# Altium schematic symbol library SchLib_Main.SchLib: 425 symbols (part 1 of 11)
Pins are listed as number, name and electrical type; pins without a type are passive.

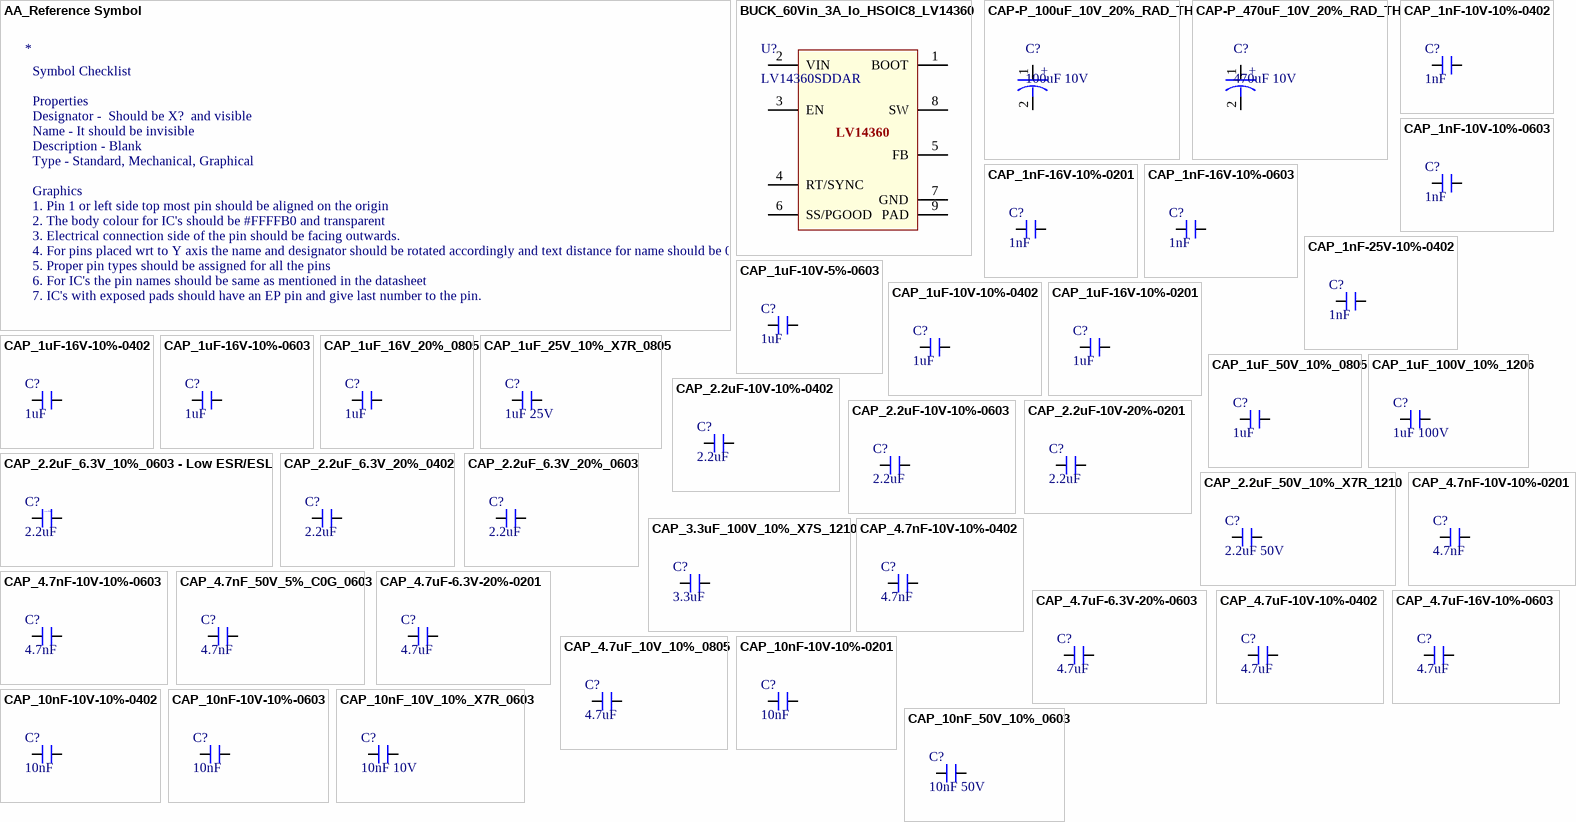
[diagram p0: symbols AA_Reference Symbol to CAP_10nF_50V_10%_0603]

## AA_Reference Symbol
designator *, comment Reference Symbol  (value not drawn)  (graphical)
Reference Checklist for Creating New Symbols
text: Symbol Checklist; Properties; Designator -  Should be X?  and visible; Name - It should be invisible; Description - Blank; Type - Standard, Mechanical, Graphical; Graphics; 1. Pin 1 or left side top most pin should be aligned on the origin; 2. The body colour for IC's should be #FFFFB0 and transparent; 3. Electrical connection side of the pin should be facing outwards.; 4. For pins placed wrt to Y axis the name and designator should be rotated accordingly and text distance for name should be 0mm; 5. Proper pin types should be assigned for all the pins; 6. For IC's the pin names should be same as mentioned in the datasheet; 7. IC's with exposed pads should have an EP pin and give last number to the pin.

## BUCK_60Vin_3A_Io_HSOIC8_LV14360
designator U?, comment LV14360SDDAR
4.3-V to 60-V, 3-A, step down converter with 300-µA standby IQ and +/-0.53% Vref accuracy 8-SO PowerPAD -40 to 150; Manufacturer: Texas Instruments; Supplier: Mouser; Supplier Part Number: 595-LV14360SDDAR; Manufacturer Part Number: LV14360SDDAR; RoHS: Yes; Category: Voltage Regulators - Switching; Stock: 4336; Pricing: 1=2.94, 10=2.64, 50=2.64, 100=2.16, 1000=1.55, 10000=1.42 (USD); Supplier 1: Mouser; Supplier Part Number 1: 595-LV14360SDDAR; Supplier 2: Digikey; Supplier Part Number 2: 296-LV14360SDDARTR-ND
pins: 1 BOOT, 2 VIN, 3 EN, 4 RT/SYNC, 5 FB, 6 SS/PGOOD, 7 GND, 8 SW, 9 PAD
text: LV14360

## CAP-P_100uF_10V_20%_RAD_TH
designator C?, comment 100uF 10V
100 µF 10 V Aluminum Electrolytic Capacitors Radial, Can 2000 Hrs @ 85°C; Manufacturer: Wurth Electronics; Manufacturer Part Number: 860010272005; Dielectric Material: Aluminium; Supplier: Digi-Key; Supplier Part Number: 732-8702-1-ND; RoHS: Yes; Category: Aluminum Electrolytic Capacitors; Stock: 1584; Pricing: 1=0.12, 50=0.1, 100=0.088, 250=0.078, 500=0.068, 1000=0.064 (USD); Pins: 2; Capacitor Type: Aluminium; Reach SVHC Compliant: Yes; RoHS Compliant: Yes; ComponentLink1URL: https://datasheet.ciiva.com:443/pdfs/VipMasterIC/IC/MIDC/MIDC-S-A0000764616/MIDC-S-A0000764141-1.pdf?src-supplier=IHS+Markit; ComponentLink1Description: https://datasheet.ciiva.com:443/pdfs/VipMasterIC/IC/MIDC/MIDC-S-A0000764616/MIDC-S-A0000764141-1.pdf?src-supplier=IHS+Markit; ComponentLink2URL: http://www.farnell.com/datasheets/1879452.pdf?src-supplier=Farnell; ComponentLink2Description: http://www.farnell.com/datasheets/1879452.pdf?src-supplier=Farnell; ComponentLink3URL: http://www.farnell.com/datasheets/1879452.pdf?src-supplier=Element14; ComponentLink3Description: http://www.farnell.com/datasheets/1879452.pdf?src-supplier=Element14; ComponentLink4URL: http://katalog.we-online.de/pbs/datasheet/860010272005.pdf?src-supplier=Digi-Key; ComponentLink4Description: http://katalog.we-online.de/pbs/datasheet/860010272005.pdf?src-supplier=Digi-Key; Supplier 1: Digi-Key; Supplier Part Number 1: 732-8702-1-ND
footprint CAP_TH_2mm_1mm_hole
pins: 1, 2
text: +

## CAP-P_470uF_10V_20%_RAD_TH
designator C?, comment 470uF 10V
Aluminum Electrolytic Capacitor, Aluminum (wet); Manufacturer: Wurth Electronics; Manufacturer Part Number: 860010273011; Dielectric Material: Aluminium; Supplier: Digi-Key; Supplier Part Number: 732-8708-1-ND; RoHS: Yes; Category: Aluminum Electrolytic Capacitors; Stock: 4181; Pricing: 1=0.17, 50=0.144, 100=0.126, 250=0.112, 500=0.098 (USD); Pins: 2; Capacitor Type: Aluminium; Reach SVHC Compliant: Yes; RoHS Compliant: Yes; ComponentLink1URL: https://datasheet.ciiva.com:443/pdfs/VipMasterIC/IC/MIDC/MIDC-S-A0000764616/MIDC-S-A0000765065-1.pdf?src-supplier=IHS+Markit; ComponentLink1Description: https://datasheet.ciiva.com:443/pdfs/VipMasterIC/IC/MIDC/MIDC-S-A0000764616/MIDC-S-A0000765065-1.pdf?src-supplier=IHS+Markit; ComponentLink2URL: http://www.farnell.com/datasheets/1879458.pdf?src-supplier=Farnell; ComponentLink2Description: http://www.farnell.com/datasheets/1879458.pdf?src-supplier=Farnell; ComponentLink3URL: http://www.farnell.com/datasheets/1879458.pdf?src-supplier=Element14; ComponentLink3Description: http://www.farnell.com/datasheets/1879458.pdf?src-supplier=Element14; ComponentLink4URL: http://katalog.we-online.de/pbs/datasheet/860010273011.pdf?src-supplier=Digi-Key; ComponentLink4Description: http://katalog.we-online.de/pbs/datasheet/860010273011.pdf?src-supplier=Digi-Key; ComponentLink5URL: https://katalog.we-online.de/pbs/datasheet/860010273011.pdf?src-supplier=Digi-Key; ComponentLink5Description: https://katalog.we-online.de/pbs/datasheet/860010273011.pdf?src-supplier=Digi-Key; Supplier 1: Digi-Key; Supplier Part Number 1: 732-8708-1-ND
pins: 1, 2
text: +

## CAP_1nF-10V-10%-0402
designator C?, comment 1nF
Multilayer Ceramic Capacitor, 1000 pF, 10 V, ± 10%, X7R, 0402 [1005 Metric]; Manufacturer: KEMET; Manufacturer Part Number: C0402C102K8RACTU; Voltage Rating: 10V; Dissipation Factor: 5%; Case/Package: 0402; Supplier-1: Digikey; Supplier 1: Digi-Key; Manufacturer 1: KEMET; Manufacturer Part Number 1: C0402C102K8RACTU; RoHS: Yes; Category: Ceramic Capacitors; Stock 1: 209937; Pricing 1: 1=0.1, 10=0.019, 50=0.0104, 100=0.0085, 500=0.00604, 1000=0.00475, 2500=0.00432, 5000=0.00397 (USD); Mount: Surface Mount; Case Code (Imperial): 0402; Case Code (Metric): 1005; Dielectric Material: Ceramic; Min Operating Temperature: -55°C; Max Operating Temperature: 125°C; Capacitance: 1nF; Tolerance: 10%; Packaging: Tape and Reel; Package Quantity: 1; Voltage Rating (DC): 10V; Dielectric: X7R; Termination: SMD/SMT; Series: C; Construction: Flat; Length: 1mm; Width: 0.02inch; Height: 0.5mm; Lead Pitch: 0.3mm; Thickness: 0.022inch; Depth: 0.5mm; Reach SVHC Compliant: No; RoHS Compliant: Yes; ComponentLink1URL: http://www.farnell.com/datasheets/2746032.pdf?src-supplier=Farnell; ComponentLink1Description: http://www.farnell.com/datasheets/2746032.pdf?src-supplier=Farnell; ComponentLink2URL: http://components.arrow.com/part/dataview/2084806S6036613N7429?src-supplier=Arrow+Electronics; ComponentLink2Description: http://components.arrow.com/part/dataview/2084806S6036613N7429?src-supplier=Arrow+Electronics; ComponentLink3URL: http://www.mouser.com/ds/2/212/KEM_C1002_X7R_SMD-1102033.pdf?src-supplier=Mouser; ComponentLink3Description: http://www.mouser.com/ds/2/212/KEM_C1002_X7R_SMD-1102033.pdf?src-supplier=Mouser; ComponentLink4URL: http://capacitoredge.kemet.com/capedge2/DataSheet?pn=C0402C102K8RAC7867&src-supplier=Avnet; ComponentLink4Description: http://capacitoredge.kemet.com/capedge2/DataSheet?pn=C0402C102K8RAC7867&src-supplier=Avnet; ComponentLink5URL: http://www.farnell.com/datasheets/2314914.pdf?src-supplier=Newark; ComponentLink5Description: http://www.farnell.com/datasheets/2314914.pdf?src-supplier=Newark; ComponentLink6URL: https://datasheet.octopart.com/C0402C102K8RACTU-KEMET-datasheet-74831184.pdf?src-supplier=Newark; ComponentLink6Description: https://datasheet.octopart.com/C0402C102K8RACTU-KEMET-datasheet-74831184.pdf?src-supplier=Newark; ComponentLink7URL: https://api.kemet.com/component-edge/download/datasheet/C0402C102K8RACTU.pdf?src-supplier=Digi-Key; ComponentLink7Description: https://api.kemet.com/component-edge/download/datasheet/C0402C102K8RACTU.pdf?src-supplier=Digi-Key; ComponentLink8URL: https://datasheet.octopart.com/C0402C102K8RACTU-Kemet-datasheet-65850000.pdf?src-supplier=Element14; ComponentLink8Description: https://datasheet.octopart.com/C0402C102K8RACTU-Kemet-datasheet-65850000.pdf?src-supplier=Element14; ComponentLink9URL: https://datasheet.octopart.com/C0402C102K8RACTU-KEMET-datasheet-149521594.pdf?src-supplier=Farnell; ComponentLink9Description: https://datasheet.octopart.com/C0402C102K8RACTU-KEMET-datasheet-149521594.pdf?src-supplier=Farnell; ComponentLink10URL: http://www.farnell.com/datasheets/2746032.pdf?src-supplier=Element14; ComponentLink10Description: http://www.farnell.com/datasheets/2746032.pdf?src-supplier=Element14; ComponentLink11URL: http://www.farnell.com/datasheets/2746032.pdf?src-supplier=Newark; ComponentLink11Description: http://www.farnell.com/datasheets/2746032.pdf?src-supplier=Newark; ComponentLink12URL: https://datasheet.octopart.com/C0402C102K8RACTU-KEMET-datasheet-138697071.pdf?src-supplier=TME; ComponentLink12Description: https://datasheet.octopart.com/C0402C102K8RACTU-KEMET-datasheet-138697071.pdf?src-supplier=TME; ComponentLink13URL: https://datasheet.octopart.com/C0402C102K8RACTU-KEMET-datasheet-157246124.pdf?src-supplier=Electro+Sonic; ComponentLink13Description: https://datasheet.octopart.com/C0402C102K8RACTU-KEMET-datasheet-157246124.pdf?src-supplier=Electro+Sonic
footprint CAP_0402 (Capacitor)
pins: 1, 2

## CAP_1nF-10V-10%-0603
designator C?, comment 1nF
Cap Ceramic 0.001uF 10V X7R 10% SMD 0603 125°C Paper T/R; Manufacturer: Yageo; Manufacturer Part Number: CC0603KRX7R6BB102; Case/Package: 0603; Supplier-1: Digikey; Supplier 1: Digi-Key; Manufacturer 1: Yageo; Manufacturer Part Number 1: CC0603KRX7R6BB102; RoHS: Yes; Category: Ceramic Capacitors; Stock 1: 20692; Pricing 1: 1=0.1, 10=0.048, 50=0.0262, 100=0.0214, 500=0.01528, 1000=0.012 (USD); Mount: Surface Mount; Case Code (Imperial): 0603; Case Code (Metric): 1608; Min Operating Temperature: -55°C; Max Operating Temperature: 125°C; Capacitance: 1nF; Tolerance: 10%; Termination: Wraparound; Voltage Rating (DC): 10V; Packaging: Tape and Reel; Dielectric: X7R; Voltage Rating: 10V; Series: CC; Construction: Flat; Length: 0.063inch; Width: 0.031inch; Height: 0.8mm; Thickness: 0.035inch; Lead Free: Lead Free; Halogen Free: Halogen Free; RoHS Compliant: Yes; ComponentLink1URL: https://datasheet.ciiva.com/13210/upy-gphc-x7r-6-3v-to-50v-8-12304-13210264.pdf?src-supplier=Mouser; ComponentLink1Description: https://datasheet.ciiva.com/13210/upy-gphc-x7r-6-3v-to-50v-8-12304-13210264.pdf?src-supplier=Mouser
footprint CAP_0603 (Capacitor)
pins: 1, 2

## CAP_1nF-16V-10%-0201
designator C?, comment 1nF
Multilayer Ceramic Capacitor, 1000 pF, 16 V, ± 10%, X7R, 0201 [0603 Metric]; Manufacturer: Murata Electronics; Manufacturer Part Number: GRM033R71C102KA01D; Manufacturer 1: Murata; Case/Package: 0201; Supplier-1: Digikey; Supplier 1: Digi-Key; Manufacturer Part Number 1: GRM033R71C102KA01D; RoHS: Yes; Category: Ceramic Capacitors; Stock 1: 1811602; Pricing 1: 1=0.1, 10=0.014, 50=0.0076, 100=0.0062, 500=0.00446, 1000=0.0035, 2500=0.00318, 5000=0.00293 (USD); ComponentLink1URL: https://datasheet.ciiva.com/18184/getdatasheetpartid-457849-18184082.pdf?src-supplier=Verical; ComponentLink1Description: https://datasheet.ciiva.com/18184/getdatasheetpartid-457849-18184082.pdf?src-supplier=Verical; ComponentLink2URL: https://datasheet.ciiva.com/5424/product-5424017.pdf?src-supplier=Mouser; ComponentLink2Description: https://datasheet.ciiva.com/5424/product-5424017.pdf?src-supplier=Mouser; ComponentLink3URL: https://datasheet.ciiva.com/6263/partnumbering-e-01-6263577.pdf?src-supplier=Digi-Key; ComponentLink3Description: https://datasheet.ciiva.com/6263/partnumbering-e-01-6263577.pdf?src-supplier=Digi-Key; ComponentLink4URL: https://datasheet.ciiva.com/6263/partnumbering-e-01-6263578.pdf?src-supplier=Digi-Key; ComponentLink4Description: https://datasheet.ciiva.com/6263/partnumbering-e-01-6263578.pdf?src-supplier=Digi-Key; ComponentLink5URL: https://datasheet.ciiva.com/6263/partnumbering-e-01-6263661.pdf?src-supplier=Digi-Key; ComponentLink5Description: https://datasheet.ciiva.com/6263/partnumbering-e-01-6263661.pdf?src-supplier=Digi-Key
footprint CAP_0201
pins: 1, 2

## CAP_1nF-16V-10%-0603
designator C?, comment 1nF
1000pF ±10% 16V Ceramic Capacitor X7R 0603 (1608 Metric) /; Manufacturer: KEMET; Manufacturer Part Number: C0603C102K4RECAUTO; Case/Package: 0603; Supplier-1: Digikey
footprint CAP_0603 (Capacitor)
pins: 1, 2

## CAP_1nF-25V-10%-0402
designator C?, comment 1nF
Multilayer Ceramic Capacitor, 0.001 uF, 25 V, ± 10%, X7R, 0402 [1005 Metric]; Manufacturer: Yageo; Manufacturer Part Number: CC0402KRX7R7BB102; Voltage Rating: 16V; Case/Package: 0402; Supplier-1: Digikey; Supplier 1: Mouser; Manufacturer 1: Yageo; Manufacturer Part Number 1: CC0402KRX7R7BB102; RoHS: Yes; Category: Ceramic Capacitors; Stock 1: 36889; Pricing 1: 1=0.1, 10=0.01, 50=0.01, 100=0.006, 1000=0.005, 10000=0.004 (USD); Mount: Surface Mount; Case Code (Imperial): 0402; Case Code (Metric): 1005; Min Operating Temperature: -55°C; Max Operating Temperature: 125°C; Capacitance: 1nF; Tolerance: 10%; Dielectric: X7R; Packaging: Tape and Reel; Voltage Rating (DC): 16V; Package Quantity: 1; Termination: SMD/SMT; Series: CC; Construction: Flat; Length: 1mm; Width: 0.02inch; Height: 0.5mm; Thickness: 0.022inch; Depth: 0.5mm; Radiation Hardening: No; Reach SVHC Compliant: No; Lead Free: Lead Free; Halogen Free: Halogen Free; RoHS Compliant: Yes; ComponentLink1URL: https://datasheet.ciiva.com/143/mlccorderingcode-143963.pdf?src-supplier=Digi-Key; ComponentLink1Description: https://datasheet.ciiva.com/143/mlccorderingcode-143963.pdf?src-supplier=Digi-Key; ComponentLink2URL: https://datasheet.ciiva.com/143/mlccorderingcode-143964.pdf?src-supplier=Digi-Key; ComponentLink2Description: https://datasheet.ciiva.com/143/mlccorderingcode-143964.pdf?src-supplier=Digi-Key; ComponentLink3URL: https://datasheet.ciiva.com/26862/getdatasheetpartid-698313-26862635.pdf?src-supplier=Verical; ComponentLink3Description: https://datasheet.ciiva.com/26862/getdatasheetpartid-698313-26862635.pdf?src-supplier=Verical; ComponentLink4URL: https://datasheet.ciiva.com/7978/1489800-7978107.pdf?src-supplier=Element14; ComponentLink4Description: https://datasheet.ciiva.com/7978/1489800-7978107.pdf?src-supplier=Element14; ComponentLink5URL: https://datasheet.ciiva.com/143/mlccorderingcode-143962.pdf?src-supplier=Digi-Key; ComponentLink5Description: https://datasheet.ciiva.com/143/mlccorderingcode-143962.pdf?src-supplier=Digi-Key; ComponentLink6URL: https://datasheet.ciiva.com/11464/upy-gphc-x7r-6-3v-to-50v-8-11464876.pdf?src-supplier=Avnet; ComponentLink6Description: https://datasheet.ciiva.com/11464/upy-gphc-x7r-6-3v-to-50v-8-11464876.pdf?src-supplier=Avnet
footprint CAP_0402 (Capacitor)
pins: 1, 2

## CAP_1uF-10V-5%-0603
designator C?, comment 1uF
Cap Ceramic 1uF 10V X7R 5% SMD 0603 125°C Paper T/R; Manufacturer: Samsung Electro-Mechanics; Manufacturer Part Number: CL10A105KP8NNNC; Manufacturer 1: Samsung; Tolerance: 10%; Dielectric: X5R; Case/Package: 0603; Supplier-1: Digikey; Supplier 1: Digi-Key; Manufacturer Part Number 1: CL10A105KP8NNNC; RoHS: Yes; Category: Ceramic Capacitors; Stock 1: 2016763; Pricing 1: 1=0.1, 10=0.032, 50=0.0176, 100=0.0145, 500=0.01032, 1000=0.00811 (USD); Mount: Surface Mount; Case Code (Metric): 1608; Case Code (Imperial): 0603; Min Operating Temperature: -55°C; Max Operating Temperature: 85°C; Capacitance: 1uF; Packaging: Tape and Reel; Package Quantity: 1; Voltage Rating: 10V; Voltage: 10V; Series: CL; Construction: Flat; Length: 1.6mm; Width: 0.031inch; Height: 0.8mm; Thickness: 0.035inch; Depth: 0.8mm; Radiation Hardening: No; RoHS Compliant: Yes; ComponentLink1URL: https://datasheet.ciiva.com/15195/getdatasheetpartid-358616-15195708.pdf?src-supplier=Verical; ComponentLink1Description: https://datasheet.ciiva.com/15195/getdatasheetpartid-358616-15195708.pdf?src-supplier=Verical; ComponentLink2URL: https://datasheet.ciiva.com/16358/cl05b104kq5nnnc-16358431.pdf?src-supplier=Future+Electronics; ComponentLink2Description: https://datasheet.ciiva.com/16358/cl05b104kq5nnnc-16358431.pdf?src-supplier=Future+Electronics; Supplier 2: Digi-Key; Manufacturer 2: KEMET; Manufacturer Part Number 2: C0603X105J8RAC7867; Stock 2: 11873; Pricing 2: 1=0.44, 10=0.309, 50=0.2336, 100=0.2035, 500=0.15072, 1000=0.12811 (USD); ComponentLink3URL: https://api.kemet.com/component-edge/download/datasheet/C0603X105J8RAC7867.pdf?src-supplier=Digi-Key; ComponentLink3Description: https://api.kemet.com/component-edge/download/datasheet/C0603X105J8RAC7867.pdf?src-supplier=Digi-Key; ComponentLink4URL: https://datasheet.octopart.com/C0603X105J8RAC7867-KEMET-datasheet-158079525.pdf?src-supplier=Electro+Sonic; ComponentLink4Description: https://datasheet.octopart.com/C0603X105J8RAC7867-KEMET-datasheet-158079525.pdf?src-supplier=Electro+Sonic; Supplier Part Number 2: 399-17699-1-ND
footprint CAP_0603 (Capacitor)
pins: 1, 2

## CAP_1uF-10V-10%-0402
designator C?, comment 1uF
Multilayer Ceramic Capacitor, 1 uF, 10 V, ± 10%, X6S, 0402 [1005 Metric]; Manufacturer: Murata Electronics; Manufacturer Part Number: GRT155C81A105KE01D; Manufacturer 1: Murata; Voltage Rating: 10V; Case/Package: 0402; Supplier-1: Digikey; Supplier 1: Digi-Key; Manufacturer Part Number 1: GRT155C81A105KE01D; RoHS: Yes; Category: Ceramic Capacitors; Stock 1: 65969; Pricing 1: 1=0.1, 10=0.068, 50=0.0372, 100=0.0303, 500=0.02166, 1000=0.01702, 2500=0.01547, 5000=0.01423 (USD); Mount: Surface Mount; Case Code (Metric): 1005; Case Code (Imperial): 0402; Min Operating Temperature: -55°C; Max Operating Temperature: 105°C; Packaging: Cut Tape; Capacitance: 1uF; Tolerance: 10%; Dielectric: X6S; Voltage Rating (DC): 10V; Series: GRT; Length: 0.039inch; Width: 0.02inch; Thickness: 0.022inch; Ratings: AEC-Q200; RoHS Compliant: Yes; ComponentLink1URL: http://www.farnell.com/datasheets/2165911.pdf?src-supplier=Farnell; ComponentLink1Description: http://www.farnell.com/datasheets/2165911.pdf?src-supplier=Farnell; ComponentLink2URL: http://search.murata.co.jp/Ceramy/image/img/A01X/G101/ENG/GRT155C81A105KE01-01.pdf?src-supplier=Digi-Key; ComponentLink2Description: http://search.murata.co.jp/Ceramy/image/img/A01X/G101/ENG/GRT155C81A105KE01-01.pdf?src-supplier=Digi-Key; ComponentLink3URL: https://datasheet.octopart.com/GRT155C81A105KE01D-Murata-datasheet-67697698.pdf?src-supplier=Newark; ComponentLink3Description: https://datasheet.octopart.com/GRT155C81A105KE01D-Murata-datasheet-67697698.pdf?src-supplier=Newark; ComponentLink4URL: https://datasheet.octopart.com/GRT155C81A105KE01D-Murata-datasheet-165579666.pdf?src-supplier=TME; ComponentLink4Description: https://datasheet.octopart.com/GRT155C81A105KE01D-Murata-datasheet-165579666.pdf?src-supplier=TME
footprint CAP_0402 (Capacitor)
pins: 1, 2

## CAP_1uF-16V-10%-0201
designator C?, comment 1uF
Multilayer Ceramic Capacitor, 1 uF, 16 V, ± 20%, X5R, 0201 [0603 Metric]; Manufacturer: Samsung Electro-Mechanics; Manufacturer Part Number: CL03A105MO3NRNH; Manufacturer 1: Samsung; Case/Package: 0201; Supplier-1: Digikey; Supplier 1: Digi-Key; Manufacturer Part Number 1: CL03A105MO3NRNH; RoHS: Yes; Category: Ceramic Capacitors; Stock 1: 1186098; Pricing 1: 1=0.25, 10=0.17, 50=0.1018, 100=0.086, 500=0.05882, 1000=0.05204, 2500=0.04977, 5000=0.04525 (USD); ComponentLink1URL: https://datasheet.octopart.com/CL03A105MO3NRNH-Samsung-Electro-Mechanics-datasheet-136037157.pdf?src-supplier=Future+Electronics; ComponentLink1Description: https://datasheet.octopart.com/CL03A105MO3NRNH-Samsung-Electro-Mechanics-datasheet-136037157.pdf?src-supplier=Future+Electronics; ComponentLink2URL: http://www.samsungsem.com/kr/support/product-search/mlcc/CL03A105MO3NRNH.jsp?src-supplier=Digi-Key; ComponentLink2Description: http://www.samsungsem.com/kr/support/product-search/mlcc/CL03A105MO3NRNH.jsp?src-supplier=Digi-Key
footprint CAP_0201
pins: 1, 2

## CAP_1uF-16V-10%-0402
designator C?, comment 1uF
Cap, 1UF, 16V, Mlcc, 0402;; Manufacturer 1: KEMET; Manufacturer Part Number 1: C0402C105K4PAC7411; ComponentLink1URL: http://datasheet.octopart.com/0402BW105K160YT-Novacap-datasheet-136501453.pdf?src-supplier=Digi-Key; ComponentLink1Description: http://datasheet.octopart.com/0402BW105K160YT-Novacap-datasheet-136501453.pdf?src-supplier=Digi-Key; ComponentLink2URL: https://datasheet.octopart.com/0402BW105K160YT-Novacap-datasheet-136501453.pdf?src-supplier=RFMW; ComponentLink2Description: https://datasheet.octopart.com/0402BW105K160YT-Novacap-datasheet-136501453.pdf?src-supplier=RFMW; Supplier 1: Digi-Key; RoHS: Yes; Category: Ceramic Capacitors; Stock 1: 142433; Pricing 1: 1=0.11, 10=0.077, 50=0.0438, 100=0.0363, 500=0.02548, 1000=0.02109, 2500=0.01963, 5000=0.01796 (USD); ComponentLink3URL: https://datasheet.octopart.com/C0402C105K4PAC7411-KEMET-datasheet-142027389.pdf?src-supplier=Farnell; ComponentLink3Description: https://datasheet.octopart.com/C0402C105K4PAC7411-KEMET-datasheet-142027389.pdf?src-supplier=Farnell; ComponentLink4URL: https://api.kemet.com/component-edge/download/datasheet/C0402C105K4PAC7411.pdf?src-supplier=Digi-Key; ComponentLink4Description: https://api.kemet.com/component-edge/download/datasheet/C0402C105K4PAC7411.pdf?src-supplier=Digi-Key; Supplier Part Number 1: 399-C0402C105K4PAC7411CT-ND
footprint CAP_0402 (Capacitor)
pins: 1, 2

## CAP_1uF-16V-10%-0603
designator C?, comment 1uF
Multilayer Ceramic Capacitor, 1 uF, 16 V, ± 10%, X7R, 0603 [1608 Metric]; Manufacturer: Yageo; Manufacturer Part Number: CC0603KRX7R7BB105; Voltage Rating: 16V; Dissipation Factor: 5%; Case/Package: 0603; Supplier-1: Digikey; Supplier 1: Digi-Key; Manufacturer 1: Yageo; Manufacturer Part Number 1: CC0603KRX7R7BB105; RoHS: Yes; Category: Ceramic Capacitors; Stock 1: 9958482; Pricing 1: 1=0.14, 10=0.098, 50=0.0556, 100=0.0461, 500=0.03234, 1000=0.02678 (USD); Mount: Surface Mount; Number of Pins: 2; Case Code (Metric): 1608; Case Code (Imperial): 0603; Min Operating Temperature: -55°C; Max Operating Temperature: 125°C; Capacitance: 1uF; Tolerance: 10%; Dielectric: X7R; Package Quantity: 1; Packaging: Tape and Reel; Voltage Rating (DC): 16V; Termination: SMD/SMT; Voltage: 16V; Series: CC; Construction: Flat; Length: 1.6mm; Width: 0.031inch; Height: 0.8mm; Thickness: 0.035inch; Depth: 0.8mm; Radiation Hardening: No; Lead Free: Lead Free; Halogen Free: Halogen Free; RoHS Compliant: Yes; Reach SVHC Compliant: Unknown; ComponentLink1URL: https://datasheet.ciiva.com/8033/1734573-8033801.pdf?src-supplier=Element14; ComponentLink1Description: https://datasheet.ciiva.com/8033/1734573-8033801.pdf?src-supplier=Element14; ComponentLink2URL: https://datasheet.ciiva.com/8033/1734573-8033800.pdf?src-supplier=Element14; ComponentLink2Description: https://datasheet.ciiva.com/8033/1734573-8033800.pdf?src-supplier=Element14; ComponentLink3URL: https://datasheet.ciiva.com/7978/1489800-7978143.pdf?src-supplier=Element14; ComponentLink3Description: https://datasheet.ciiva.com/7978/1489800-7978143.pdf?src-supplier=Element14; ComponentLink4URL: https://datasheet.ciiva.com/28450/1489800-28450557.pdf?src-supplier=Element14; ComponentLink4Description: https://datasheet.ciiva.com/28450/1489800-28450557.pdf?src-supplier=Element14; ComponentLink5URL: https://datasheet.ciiva.com/176/mlccorderingcode-176789.pdf?src-supplier=Digi-Key; ComponentLink5Description: https://datasheet.ciiva.com/176/mlccorderingcode-176789.pdf?src-supplier=Digi-Key; ComponentLink6URL: https://datasheet.ciiva.com/176/mlccorderingcode-176788.pdf?src-supplier=Digi-Key; ComponentLink6Description: https://datasheet.ciiva.com/176/mlccorderingcode-176788.pdf?src-supplier=Digi-Key; ComponentLink7URL: https://datasheet.ciiva.com/176/mlccorderingcode-176790.pdf?src-supplier=Digi-Key; ComponentLink7Description: https://datasheet.ciiva.com/176/mlccorderingcode-176790.pdf?src-supplier=Digi-Key; ComponentLink8URL: https://datasheet.ciiva.com/5425/upy-gphc-x7r-6-3v-to-50v-8-12304-5425495.pdf?src-supplier=Mouser; ComponentLink8Description: https://datasheet.ciiva.com/5425/upy-gphc-x7r-6-3v-to-50v-8-12304-5425495.pdf?src-supplier=Mouser
footprint CAP_0603 (Capacitor)
pins: 1, 2

## CAP_1uF_16V_20%_0805
designator C?, comment 1uF
Cap, 1UF, 16V, Mlcc, 0805;; Manufacturer: KEMET; Manufacturer Part Number: C0805C105Z4VAC7210; Tolerance: 80%; Supplier 1: Mouser; RoHS: Yes; Category: Ceramic Capacitors; Stock 1: 28110; Pricing 1: 1=0.12, 10=0.079, 50=0.079, 100=0.037, 1000=0.022, 10000=0.017 (USD); Mount: Surface Mount; Case/Package: 0805; Min Operating Temperature: -30°C; Max Operating Temperature: 85°C; Series: SMD Comm Y5V; Voltage Rating: 16V; Capacitance: 1uF; RoHS Compliant: Yes; Supplier 2: Digi-Key; Manufacturer 2: KEMET; Manufacturer Part Number 2: C0805C105Z4VAC7210; Stock 2: 109336; Pricing 2: 1=0.1, 10=0.075, 50=0.0424, 100=0.0351, 500=0.0246, 1000=0.02036, 2500=0.01895, 5000=0.01734 (USD); Supplier 3: Mouser; Manufacturer 3: KEMET; Manufacturer Part Number 3: C0805C105Z4VAC7210; Stock 3: 14106; Pricing 3: 1=0.12, 10=0.079, 50=0.079, 100=0.037, 1000=0.022, 10000=0.016 (USD)
footprint CAP_0805 (Chip Capacitor, 2-Leads, Body 2.10x1.35mm, IPC Medium Density)
pins: 1, 2

## CAP_1uF_25V_10%_X7R_0805
designator C?, comment 1uF 25V
Ceramic Capacitor, Multilayer, Ceramic, 25V, 10% +Tol, 10% -Tol, X7R, 15% TC, 1uF, Surface Mount, 0805; Manufacturer: KEMET; Manufacturer Part Number: C0805C105K3RACTU; Multilayer: Yes; Supplier: Digi-Key; Supplier Part Number: 399-C0805C105K3RAC7800DKR-ND; RoHS: Yes; Category: Ceramic Capacitors; Stock: 491988; Pricing: 1=0.13, 10=0.091, 50=0.054, 100=0.0425, 500=0.03142, 1000=0.02601 (USD); Mounting Technology: Surface Mount; Pins: 2; Package Shape: Rectangular; Terminal Finish: Nickel; Dielectric Material: Ceramic; Case/Package: 0805; Min Operating Temperature: -55°C; Max Operating Temperature: 125°C; JESD-609 Code: e3; Package Style: SMTMeter; Capacitor Type: Ceramic; Tolerance  (fill in as +-): 10%; Packaging: Tape and Reel; Tolerance (fill in as +-): 10%; Temperature Characteristics Code: X7R; Termination: Wraparound; Length: 2mm; Width: 1.25mm; Height: 1.25mm; Reach SVHC Compliant: Yes; RoHS Compliant: Yes; ComponentLink1URL: https://datasheet.ciiva.com:443/pdfs/VipMasterIC/IC/KEME/KEME-S-A0008991654/KEME-S-A0008991654-1.pdf?src-supplier=IHS+Markit; ComponentLink1Description: https://datasheet.ciiva.com:443/pdfs/VipMasterIC/IC/KEME/KEME-S-A0008991654/KEME-S-A0008991654-1.pdf?src-supplier=IHS+Markit; ComponentLink2URL: https://datasheet.ciiva.com/6074/kem-c1002-x7r-smd-6074661.pdf?src-supplier=Farnell; ComponentLink2Description: https://datasheet.ciiva.com/6074/kem-c1002-x7r-smd-6074661.pdf?src-supplier=Farnell; ComponentLink3URL: https://datasheet.ciiva.com/28610/1918693-28610874.pdf?src-supplier=Element14; ComponentLink3Description: https://datasheet.ciiva.com/28610/1918693-28610874.pdf?src-supplier=Element14; ComponentLink4URL: https://datasheet.ciiva.com/46443/1851736-46443533.pdf?src-supplier=Element14; ComponentLink4Description: https://datasheet.ciiva.com/46443/1851736-46443533.pdf?src-supplier=Element14; Rated DC Voltage (URdc): 25V; Value: 1uF
footprint CAP_0805
pins: 1, 2

## CAP_1uF_50V_10%_0805
designator C?, comment 1uF
Multilayer Ceramic Capacitor, 1 uF, 50 V, ± 10%, X7R, 0805 [2012 Metric]; Manufacturer: KEMET; Manufacturer Part Number: C0805C105K5RACTU; Voltage Rating: 50V; Supplier 1: Mouser; RoHS: Yes; Category: Ceramic Capacitors; Stock 1: 246479; Pricing 1: 1=0.33, 10=0.171, 50=0.171, 100=0.11, 1000=0.092, 10000=0.076 (USD); Mount: Surface Mount,PCB; Case/Package: 0805; Case Code (Metric): 2012; Case Code (Imperial): 0805; Dielectric Material: Ceramic; Min Operating Temperature: -55°C; Max Operating Temperature: 125°C; Packaging: Tape and Reel; Capacitance: 1uF; Tolerance: 10%; Voltage Rating (DC): 50V; Package Quantity: 1; Dielectric: X7R; Termination: SMD/SMT; Voltage: 50V; Series: C; Construction: Flat; Length: 2mm; Width: 0.049inch; Height: 1.25mm; Thickness: 0.055inch; Depth: 1.25mm; Reach SVHC Compliant: No; RoHS Compliant: Yes; ComponentLink1URL: https://datasheet.ciiva.com/7842/1732744-7842192.pdf?src-supplier=Element14; ComponentLink1Description: https://datasheet.ciiva.com/7842/1732744-7842192.pdf?src-supplier=Element14; ComponentLink2URL: https://datasheet.ciiva.com/22700/1851736-22700523.pdf?src-supplier=Element14; ComponentLink2Description: https://datasheet.ciiva.com/22700/1851736-22700523.pdf?src-supplier=Element14; ComponentLink3URL: https://datasheet.ciiva.com/5408/kem-c1002-x7r-smd-5408569.pdf?src-supplier=Mouser; ComponentLink3Description: https://datasheet.ciiva.com/5408/kem-c1002-x7r-smd-5408569.pdf?src-supplier=Mouser; Supplier 2: Digi-Key; Manufacturer 2: KEMET; Manufacturer Part Number 2: C0805C105K5RACTU; Stock 2: 167514; Pricing 2: 1=0.33, 10=0.231, 50=0.162, 100=0.1388, 500=0.10412, 1000=0.08792 (USD)
footprint CAP_0805 (Chip Capacitor, 2-Leads, Body 2.10x1.35mm, IPC Medium Density)
pins: 1, 2

## CAP_1uF_100V_10%_1206
designator C?, comment 1uF 100V
Ceramic Capacitor, Multilayer, Ceramic, 100V, 10% +Tol, 10% -Tol, X7R, 15% TC, 1uF, Surface Mount, 1206; Manufacturer: KEMET; Manufacturer Part Number: C1206C105K1RACTU; Multilayer: Yes; Supplier: Mouser; Supplier Part Number: 80-C1206C105K1R; RoHS: Yes; Category: Ceramic Capacitors; Stock: 13230; Pricing: 1=0.45, 10=0.239, 50=0.239, 100=0.164, 1000=0.164, 10000=0.136 (USD); Mounting Technology: Surface Mount; Pins: 2; Dielectric Material: Ceramic; Package Shape: Rectangular; Case/Package: 1206; Terminal Finish: Nickel; Min Operating Temperature: -55°C; Max Operating Temperature: 125°C; JESD-609 Code: e3; Value: 1uF; Capacitor Type: Ceramic; Tolerance  (fill in as +-): 10%; Package Style: SMTMeter; Packaging: Tape and Reel; Tolerance (fill in as +-): 10%; Rated DC Voltage (URdc): 100V; Temperature Characteristics Code: X7R; Termination: Wraparound; Length: 3.2mm; Width: 2.5mm; Height: 1.6mm; Reach SVHC Compliant: Yes; RoHS Compliant: Yes; ComponentLink1URL: https://datasheet.ciiva.com:443/pdfs/VipMasterIC/IC/KEME/KEME-S-A0008991654/KEME-S-A0008991654-1.pdf?src-supplier=IHS+Markit; ComponentLink1Description: https://datasheet.ciiva.com:443/pdfs/VipMasterIC/IC/KEME/KEME-S-A0008991654/KEME-S-A0008991654-1.pdf?src-supplier=IHS+Markit; ComponentLink2URL: http://www.alliedelec.com/m/d/51f554c3dd800f51434b811e71a34895.pdf?src-supplier=Allied+Electronics; ComponentLink2Description: http://www.alliedelec.com/m/d/51f554c3dd800f51434b811e71a34895.pdf?src-supplier=Allied+Electronics; ComponentLink3URL: http://www.farnell.com/datasheets/2741188.pdf?src-supplier=Farnell; ComponentLink3Description: http://www.farnell.com/datasheets/2741188.pdf?src-supplier=Farnell; ComponentLink4URL: http://www.farnell.com/datasheets/2741188.pdf?src-supplier=Element14; ComponentLink4Description: http://www.farnell.com/datasheets/2741188.pdf?src-supplier=Element14; ComponentLink5URL: http://datasheet.octopart.com/C1206C105K1RACTU-Kemet-datasheet-46909923.pdf?src-supplier=Distrelec; ComponentLink5Description: http://datasheet.octopart.com/C1206C105K1RACTU-Kemet-datasheet-46909923.pdf?src-supplier=Distrelec; ComponentLink6URL: http://datasheet.octopart.com/C1206C105K1RACTU-Kemet-datasheet-46909923.pdf?src-supplier=Digikey; ComponentLink6Description: http://datasheet.octopart.com/C1206C105K1RACTU-Kemet-datasheet-46909923.pdf?src-supplier=Digikey; ComponentLink7URL: http://datasheet.octopart.com/C1206C105K1RACTU-Kemet-datasheet-46909923.pdf?src-supplier=Avnet; ComponentLink7Description: http://datasheet.octopart.com/C1206C105K1RACTU-Kemet-datasheet-46909923.pdf?src-supplier=Avnet; ComponentLink8URL: https://datasheet.octopart.com/C1206C105K1RACTU-KEMET-datasheet-145014209.pdf?src-supplier=Farnell; ComponentLink8Description: https://datasheet.octopart.com/C1206C105K1RACTU-KEMET-datasheet-145014209.pdf?src-supplier=Farnell; ComponentLink9URL: https://api.kemet.com/component-edge/download/datasheet/C1206C105K1RACTU.pdf?src-supplier=Digikey; ComponentLink9Description: https://api.kemet.com/component-edge/download/datasheet/C1206C105K1RACTU.pdf?src-supplier=Digikey; ComponentLink10URL: http://www.farnell.com/datasheets/2741188.pdf?src-supplier=Newark; ComponentLink10Description: http://www.farnell.com/datasheets/2741188.pdf?src-supplier=Newark; ComponentLink11URL: http://datasheet.octopart.com/C1206C105K1RACTU-Kemet-datasheet-46909923.pdf?src-supplier=Onlinecomponents.com; ComponentLink11Description: http://datasheet.octopart.com/C1206C105K1RACTU-Kemet-datasheet-46909923.pdf?src-supplier=Onlinecomponents.com; ComponentLink12URL: http://datasheet.octopart.com/C1206C105K1RACTU-Kemet-datasheet-46909923.pdf?src-supplier=NAC+Semi; ComponentLink12Description: http://datasheet.octopart.com/C1206C105K1RACTU-Kemet-datasheet-46909923.pdf?src-supplier=NAC+Semi; ComponentLink13URL: http://datasheet.octopart.com/C1206C105K1RACTU-Kemet-datasheet-46909923.pdf?src-supplier=Electro+Sonic; ComponentLink13Description: http://datasheet.octopart.com/C1206C105K1RACTU-Kemet-datasheet-46909923.pdf?src-supplier=Electro+Sonic
footprint CAP_1206
pins: 1, 2

## CAP_2.2uF-10V-10%-0402
designator C?, comment 2.2uF
Multilayer Ceramic Capacitors (High dielectric type), 10V, 2.2 uF, ± 10 %, 0402, X5R, RoHS; Manufacturer 1: Taiyo Yuden; Manufacturer Part Number 1: LMK105BJ225KV-F; ComponentLink1URL: http://www.farnell.com/datasheets/1872202.pdf?src-supplier=Farnell; ComponentLink1Description: http://www.farnell.com/datasheets/1872202.pdf?src-supplier=Farnell; ComponentLink2URL: http://www.farnell.com/datasheets/2047915.pdf?src-supplier=Farnell; ComponentLink2Description: http://www.farnell.com/datasheets/2047915.pdf?src-supplier=Farnell; ComponentLink3URL: http://www.mouser.com/ds/2/281/c02e-2905.pdf?src-supplier=Mouser; ComponentLink3Description: http://www.mouser.com/ds/2/281/c02e-2905.pdf?src-supplier=Mouser; ComponentLink4URL: http://www.farnell.com/datasheets/1872202.pdf?src-supplier=Newark; ComponentLink4Description: http://www.farnell.com/datasheets/1872202.pdf?src-supplier=Newark; ComponentLink5URL: http://www.farnell.com/datasheets/2047915.pdf?src-supplier=Element14; ComponentLink5Description: http://www.farnell.com/datasheets/2047915.pdf?src-supplier=Element14; ComponentLink6URL: https://datasheet.octopart.com/GRM155R61A225KE95D-Murata-datasheet-62317105.pdf?src-supplier=Element14; ComponentLink6Description: https://datasheet.octopart.com/GRM155R61A225KE95D-Murata-datasheet-62317105.pdf?src-supplier=Element14; ComponentLink7URL: http://www.farnell.com/datasheets/1872202.pdf?src-supplier=Element14; ComponentLink7Description: http://www.farnell.com/datasheets/1872202.pdf?src-supplier=Element14; ComponentLink8URL: http://www.farnell.com/datasheets/2047915.pdf?src-supplier=Newark; ComponentLink8Description: http://www.farnell.com/datasheets/2047915.pdf?src-supplier=Newark; ComponentLink9URL: https://search.murata.co.jp/Ceramy/image/img/A01X/G101/ENG/GRM155R61A225KE95-01.pdf?src-supplier=Digi-Key; ComponentLink9Description: https://search.murata.co.jp/Ceramy/image/img/A01X/G101/ENG/GRM155R61A225KE95-01.pdf?src-supplier=Digi-Key; ComponentLink10URL: http://psearch.en.murata.com/capacitor/product/GRM155R61A225KE95%23.pdf?src-supplier=Avnet; ComponentLink10Description: http://psearch.en.murata.com/capacitor/product/GRM155R61A225KE95%23.pdf?src-supplier=Avnet; Supplier 1: Digi-Key; RoHS: Yes; Category: Ceramic Capacitors; Stock 1: 2029513; Pricing 1: 1=0.1, 10=0.054, 50=0.0296, 100=0.0243, 500=0.01732, 1000=0.01361, 2500=0.01237, 5000=0.01138 (USD); ComponentLink11URL: http://www.farnell.com/datasheets/2819851.pdf?src-supplier=Farnell; ComponentLink11Description: http://www.farnell.com/datasheets/2819851.pdf?src-supplier=Farnell; ComponentLink12URL: http://ds.yuden.co.jp/TYCOMPAS/ut/detail.do?productNo=LMK105BJ225KV-F&fileName=LMK105BJ225KV-F_SS&mode=specSheetDownload&src-supplier=Digi-Key; ComponentLink12Description: http://ds.yuden.co.jp/TYCOMPAS/ut/detail.do?productNo=LMK105BJ225KV-F&fileName=LMK105BJ225KV-F_SS&mode=specSheetDownload&src-supplier=Digi-Key; ComponentLink13URL: http://datasheet.octopart.com/LMK105BJ225KV-F-Taiyo-Yuden-datasheet-140424376.pdf?src-supplier=Digi-Key; ComponentLink13Description: http://datasheet.octopart.com/LMK105BJ225KV-F-Taiyo-Yuden-datasheet-140424376.pdf?src-supplier=Digi-Key; ComponentLink14URL: http://datasheet.octopart.com/LMK105BJ225KV-F-Taiyo-Yuden-datasheet-140424376.pdf?src-supplier=Mouser; ComponentLink14Description: http://datasheet.octopart.com/LMK105BJ225KV-F-Taiyo-Yuden-datasheet-140424376.pdf?src-supplier=Mouser; ComponentLink15URL: http://datasheet.octopart.com/LMK105BJ225KV-F-Taiyo-Yuden-datasheet-140424376.pdf?src-supplier=Avnet; ComponentLink15Description: http://datasheet.octopart.com/LMK105BJ225KV-F-Taiyo-Yuden-datasheet-140424376.pdf?src-supplier=Avnet; ComponentLink16URL: https://datasheet.octopart.com/LMK105BJ225KV-F-Taiyo-Yuden-datasheet-104422197.pdf?src-supplier=Future+Electronics; ComponentLink16Description: https://datasheet.octopart.com/LMK105BJ225KV-F-Taiyo-Yuden-datasheet-104422197.pdf?src-supplier=Future+Electronics; ComponentLink17URL: http://datasheet.octopart.com/LMK105BJ225KV-F-Taiyo-Yuden-datasheet-140424376.pdf?src-supplier=Rs; ComponentLink17Description: http://datasheet.octopart.com/LMK105BJ225KV-F-Taiyo-Yuden-datasheet-140424376.pdf?src-supplier=Rs; ComponentLink18URL: http://datasheet.octopart.com/LMK105BJ225KV-F-Taiyo-Yuden-datasheet-140424376.pdf?src-supplier=Newark; ComponentLink18Description: http://datasheet.octopart.com/LMK105BJ225KV-F-Taiyo-Yuden-datasheet-140424376.pdf?src-supplier=Newark; ComponentLink19URL: http://www.farnell.com/datasheets/2819851.pdf?src-supplier=Newark; ComponentLink19Description: http://www.farnell.com/datasheets/2819851.pdf?src-supplier=Newark; ComponentLink20URL: http://datasheet.octopart.com/LMK105BJ225KV-F-Taiyo-Yuden-datasheet-140424376.pdf?src-supplier=Onlinecomponents.com; ComponentLink20Description: http://datasheet.octopart.com/LMK105BJ225KV-F-Taiyo-Yuden-datasheet-140424376.pdf?src-supplier=Onlinecomponents.com; ComponentLink21URL: http://datasheet.octopart.com/LMK105BJ225KV-F-Taiyo-Yuden-datasheet-140424376.pdf?src-supplier=Quest; ComponentLink21Description: http://datasheet.octopart.com/LMK105BJ225KV-F-Taiyo-Yuden-datasheet-140424376.pdf?src-supplier=Quest; ComponentLink22URL: http://datasheet.octopart.com/LMK105BJ225KV-F-Taiyo-Yuden-datasheet-140424376.pdf?src-supplier=Electro+Sonic; ComponentLink22Description: http://datasheet.octopart.com/LMK105BJ225KV-F-Taiyo-Yuden-datasheet-140424376.pdf?src-supplier=Electro+Sonic; ComponentLink23URL: http://datasheet.octopart.com/LMK105BJ225KV-F-Taiyo-Yuden-datasheet-140424376.pdf?src-supplier=NAC+Semi; ComponentLink23Description: http://datasheet.octopart.com/LMK105BJ225KV-F-Taiyo-Yuden-datasheet-140424376.pdf?src-supplier=NAC+Semi; ComponentLink24URL: https://datasheet.octopart.com/LMK105BJ225KV-F-Taiyo-Yuden-datasheet-140424376.pdf?src-supplier=Master+Electronics; ComponentLink24Description: https://datasheet.octopart.com/LMK105BJ225KV-F-Taiyo-Yuden-datasheet-140424376.pdf?src-supplier=Master+Electronics; Supplier Part Number 1: 587-6016-1-ND
footprint CAP_0402 (Capacitor)
pins: 1, 2

## CAP_2.2uF-10V-10%-0603
designator C?, comment 2.2uF
Multilayer Ceramic Capacitor, 2.2 uF, 16 V, ± 10%, X5R, 0603 [1608 Metric]; Manufacturer: KEMET; Manufacturer Part Number: C0603C225K4PACTU; Voltage Rating: 16V; Dissipation Factor: 5%; Case/Package: 0603; Supplier-1: Digikey; Supplier 1: Digi-Key; Manufacturer 1: KEMET; Manufacturer Part Number 1: C0603C225K4PACTU; RoHS: Yes; Category: Ceramic Capacitors; Stock 1: 107081; Pricing 1: 1=0.12, 10=0.086, 50=0.0488, 100=0.0405, 500=0.0284, 1000=0.02351 (USD); Mount: Surface Mount; Number of Pins: 2; Case Code (Imperial): 0603; Case Code (Metric): 1608; Dielectric Material: Ceramic; Min Operating Temperature: -55°C; Max Operating Temperature: 85°C; Capacitance: 2.2uF; Tolerance: 10%; Voltage Rating (DC): 16V; Packaging: Tape and Reel; Package Quantity: 1; Dielectric: X5R; Termination: SMD/SMT; Voltage: 16V; Series: C; Construction: Flat; Length: 1.6mm; Width: 0.031inch; Height: 0.8mm; Thickness: 0.034inch; Depth: 0.8mm; Radiation Hardening: No; Reach SVHC Compliant: No; Lead Free: Lead Free; RoHS Compliant: Yes; ComponentLink1URL: https://datasheet.ciiva.com/5969/1776083-5969304.pdf?src-supplier=Farnell; ComponentLink1Description: https://datasheet.ciiva.com/5969/1776083-5969304.pdf?src-supplier=Farnell; ComponentLink2URL: https://datasheet.ciiva.com/7823/1776083-7823706.pdf?src-supplier=Element14; ComponentLink2Description: https://datasheet.ciiva.com/7823/1776083-7823706.pdf?src-supplier=Element14
footprint CAP_0603 (Capacitor)
pins: 1, 2

## CAP_2.2uF-10V-20%-0201
designator C?, comment 2.2uF
Multilayer Ceramic Capacitor, 2.2 uF, 10 V, ± 20%, X5R, 0201 [0603 Metric]; Manufacturer: Murata Electronics; Manufacturer Part Number: GRM033R61A225ME47D; Manufacturer 1: Murata; Case/Package: 0201; Supplier-1: Digikey; Supplier 1: Digi-Key; Manufacturer Part Number 1: GRM033R61A225ME47D; RoHS: Yes; Category: Ceramic Capacitors; Stock 1: 1956457; Pricing 1: 1=0.24, 10=0.164, 50=0.0986, 100=0.0833, 500=0.05702, 1000=0.05044, 2500=0.04825, 5000=0.04386 (USD); ComponentLink1URL: https://datasheet.octopart.com/GRM033R61A225ME47D-Murata-datasheet-149522795.pdf?src-supplier=Newark; ComponentLink1Description: https://datasheet.octopart.com/GRM033R61A225ME47D-Murata-datasheet-149522795.pdf?src-supplier=Newark; ComponentLink2URL: http://search.murata.co.jp/Ceramy/image/img/A01X/G101/ENG/GRM033R61A225ME47-01.pdf?src-supplier=Digi-Key; ComponentLink2Description: http://search.murata.co.jp/Ceramy/image/img/A01X/G101/ENG/GRM033R61A225ME47-01.pdf?src-supplier=Digi-Key; ComponentLink3URL: https://www.murata.com/~/media/webrenewal/support/library/catalog/products/capacitor/mlcc/c02e.ashx?la=en-us&src-supplier=Digi-Key; ComponentLink3Description: https://www.murata.com/~/media/webrenewal/support/library/catalog/products/capacitor/mlcc/c02e.ashx?la=en-us&src-supplier=Digi-Key; ComponentLink4URL: https://datasheet.octopart.com/GRM033R61A225ME47D-Murata-datasheet-86568079.pdf?src-supplier=Future+Electronics; ComponentLink4Description: https://datasheet.octopart.com/GRM033R61A225ME47D-Murata-datasheet-86568079.pdf?src-supplier=Future+Electronics
footprint CAP_0201
pins: 1, 2

## CAP_2.2uF_6.3V_10%_0603 - Low ESR/ESL
designator C?, comment 2.2uF
Multilayer Ceramic Capacitor, 2.2 uF, 6.3 V, ± 10%, X7R, 0603 [1608 Metric]; Manufacturer: TDK; Manufacturer Part Number: CGA3E1X7R0J225K080AC; Voltage Rating: 6.3V; Supplier 1: Rs; RoHS: Yes; Category: Ceramic Capacitors; Stock 1: 1; Mount: Surface Mount; Case/Package: 0603; Case Code (Metric): 1608; Case Code (Imperial): 0603; Weight: 7.1E-05oz; Min Operating Temperature: -55°C; Max Operating Temperature: 125°C; Tolerance: 10%; Packaging: Tape and Reel; Capacitance: 2.2uF; Termination: SMD/SMT; Series: CGA; Voltage Rating (DC): 6.3V; Package Quantity: 1; Dielectric: X7R; Length: 1.6mm; Width: 0.031inch; Height: 0.8mm; Thickness: 0.035inch; Depth: 0.8mm; Ratings: AEC-Q200; Lead Free: Lead Free; Reach SVHC Compliant: No; RoHS Compliant: Yes; ComponentLink1URL: https://datasheet.ciiva.com/24219/cga3e1x7r0j225k080ac-265889-24219571.pdf?src-supplier=Mouser; ComponentLink1Description: https://datasheet.ciiva.com/24219/cga3e1x7r0j225k080ac-265889-24219571.pdf?src-supplier=Mouser; ComponentLink2URL: https://datasheet.ciiva.com/28576/1796654-28576764.pdf?src-supplier=Element14; ComponentLink2Description: https://datasheet.ciiva.com/28576/1796654-28576764.pdf?src-supplier=Element14; ComponentLink3URL: https://datasheet.ciiva.com/22718/1796654-22718047.pdf?src-supplier=Element14; ComponentLink3Description: https://datasheet.ciiva.com/22718/1796654-22718047.pdf?src-supplier=Element14; Supplier 2: Digi-Key; Manufacturer 2: TDK; Manufacturer Part Number 2: CGA3E1X7R0J225K080AC; Stock 2: 2496211; Pricing 2: 1=0.22, 10=0.152, 50=0.0908, 100=0.0768, 500=0.05252, 1000=0.04646 (USD)
footprint CAP_0603 (Chip Capacitor 0603, 2-Leads, Body 1.68x0.88mm, IPC Medium Density)
pins: 1, 2
text: Low ESR

## CAP_2.2uF_6.3V_20%_0402
designator C?, comment 2.2uF
Multilayer Ceramic Capacitor, 2.2 uF, 6.3 V, ± 20%, X5R, 0402 [1005 Metric]; Manufacturer 1: KEMET; Manufacturer Part Number 1: C0402C225M9PACTU; Voltage Rating (DC): 6.3V; Dissipation Factor: 5%; ComponentLink1URL: https://datasheet.ciiva.com/28614/1918694-28614750.pdf?src-supplier=Element14; ComponentLink1Description: https://datasheet.ciiva.com/28614/1918694-28614750.pdf?src-supplier=Element14; ComponentLink2URL: https://datasheet.ciiva.com/18192/getdatasheetpartid-496832-18192487.pdf?src-supplier=Verical; ComponentLink2Description: https://datasheet.ciiva.com/18192/getdatasheetpartid-496832-18192487.pdf?src-supplier=Verical; ComponentLink3URL: http://www.farnell.com/datasheets/2739681.pdf?src-supplier=Farnell; ComponentLink3Description: http://www.farnell.com/datasheets/2739681.pdf?src-supplier=Farnell; ComponentLink4URL: http://www.farnell.com/datasheets/40889.pdf?src-supplier=Farnell; ComponentLink4Description: http://www.farnell.com/datasheets/40889.pdf?src-supplier=Farnell; ComponentLink5URL: http://components.arrow.com/part/dataview/42932920S8408814N7429?src-supplier=Arrow+Electronics; ComponentLink5Description: http://components.arrow.com/part/dataview/42932920S8408814N7429?src-supplier=Arrow+Electronics; ComponentLink6URL: http://capacitoredge.kemet.com/capedge2/DataSheet?pn=C0402C225M9PAC7867&src-supplier=Avnet; ComponentLink6Description: http://capacitoredge.kemet.com/capedge2/DataSheet?pn=C0402C225M9PAC7867&src-supplier=Avnet; ComponentLink7URL: http://www.mouser.com/ds/2/212/KEM_C1006_X5R_SMD-1103249.pdf?src-supplier=Mouser; ComponentLink7Description: http://www.mouser.com/ds/2/212/KEM_C1006_X5R_SMD-1103249.pdf?src-supplier=Mouser; ComponentLink8URL: https://www.alliedelec.com/m/d/f3c02ddb98afa3dd1adcb801109671e9.pdf?src-supplier=Allied+Electronics; ComponentLink8Description: https://www.alliedelec.com/m/d/f3c02ddb98afa3dd1adcb801109671e9.pdf?src-supplier=Allied+Electronics; ComponentLink9URL: https://api.kemet.com/component-edge/download/datasheet/C0402C225M9PACTU.pdf?src-supplier=Digi-Key; ComponentLink9Description: https://api.kemet.com/component-edge/download/datasheet/C0402C225M9PACTU.pdf?src-supplier=Digi-Key; ComponentLink10URL: http://www.farnell.com/datasheets/2739681.pdf?src-supplier=Newark; ComponentLink10Description: http://www.farnell.com/datasheets/2739681.pdf?src-supplier=Newark; ComponentLink11URL: http://www.farnell.com/datasheets/40889.pdf?src-supplier=Element14; ComponentLink11Description: http://www.farnell.com/datasheets/40889.pdf?src-supplier=Element14; ComponentLink12URL: https://datasheet.octopart.com/C0402C225M9PAC-TU-Kemet-datasheet-5314969.pdf?src-supplier=Element14; ComponentLink12Description: https://datasheet.octopart.com/C0402C225M9PAC-TU-Kemet-datasheet-5314969.pdf?src-supplier=Element14; ComponentLink13URL: http://www.farnell.com/datasheets/2119977.pdf?src-supplier=Element14; ComponentLink13Description: http://www.farnell.com/datasheets/2119977.pdf?src-supplier=Element14; ComponentLink14URL: https://www.verical.com/server-webapp/html/getDatasheet?partID=152013&src-supplier=Verical; ComponentLink14Description: https://www.verical.com/server-webapp/html/getDatasheet?partID=152013&src-supplier=Verical; Supplier 1: Digi-Key; RoHS: Yes; Category: Ceramic Capacitors; Stock 1: 339728; Pricing 1: 1=0.23, 10=0.158, 50=0.1056, 100=0.0898, 500=0.06336, 1000=0.05544, 2500=0.0528, 5000=0.04884 (USD); Mount: Surface Mount,PCB; Case/Package: 0402; Number of Pins: 2; Case Code (Imperial): 0402; Case Code (Metric): 1005; Min Operating Temperature: -55°C; Max Operating Temperature: 85°C; Tolerance: 20%; Capacitance: 2.2uF; Packaging: Tape and Reel; Dielectric: X5R; Termination: SMD/SMT; Voltage Rating: 6.3V; Series: SMD Comm X5R; Package Quantity: 10000; Construction: Flat; Length: 1mm; Width: 0.5mm; Height: 0.5mm; Depth: 0.5mm; Thickness: 0.022inch; Radiation Hardening: No; Lead Free: Lead Free; Reach SVHC Compliant: No; RoHS Compliant: Yes; Supplier Part Number 1: 399-C0402C225M9PAC7867CT-ND
footprint CAP_0402
pins: 1, 2

## CAP_2.2uF_6.3V_20%_0603
designator C?, comment 2.2uF
Cap Ceramic 2.2uF 6.3V X5R 20% SMD 0603 85°C Paper T/R; Manufacturer: KEMET; Manufacturer Part Number: C0603C225M9PACTU; Supplier 1: Mouser; RoHS: Yes; Category: Ceramic Capacitors; Stock 1: 12100; Pricing 1: 1=0.14, 10=0.1, 50=0.1, 100=0.056, 1000=0.039, 10000=0.027 (USD); ComponentLink1URL: http://www.mouser.com/ds/2/212/KEM_C1006_X5R_SMD-1103249.pdf?src-supplier=Mouser; ComponentLink1Description: http://www.mouser.com/ds/2/212/KEM_C1006_X5R_SMD-1103249.pdf?src-supplier=Mouser; ComponentLink2URL: http://www.farnell.com/datasheets/2749516.pdf?src-supplier=Farnell; ComponentLink2Description: http://www.farnell.com/datasheets/2749516.pdf?src-supplier=Farnell; ComponentLink3URL: http://components.arrow.com/part/dataview/40911824S6878393N7429?src-supplier=Arrow+Electronics; ComponentLink3Description: http://components.arrow.com/part/dataview/40911824S6878393N7429?src-supplier=Arrow+Electronics; ComponentLink4URL: http://www.kemet.com/docfinder?Partnumber=C0603C225M9PACTU&src-supplier=Digi-Key; ComponentLink4Description: http://www.kemet.com/docfinder?Partnumber=C0603C225M9PACTU&src-supplier=Digi-Key; ComponentLink5URL: http://www.farnell.com/datasheets/2749516.pdf?src-supplier=Newark; ComponentLink5Description: http://www.farnell.com/datasheets/2749516.pdf?src-supplier=Newark; ComponentLink6URL: https://datasheet.octopart.com/C0603C225M9PACTU-KEMET-datasheet-153476653.pdf?src-supplier=Electro+Sonic; ComponentLink6Description: https://datasheet.octopart.com/C0603C225M9PACTU-KEMET-datasheet-153476653.pdf?src-supplier=Electro+Sonic; Supplier 2: Mouser; Manufacturer 2: KEMET; Manufacturer Part Number 2: C0603C225M9PACTU; Stock 2: 12100; Pricing 2: 1=0.17, 10=0.074, 50=0.074, 100=0.043, 1000=0.036, 10000=0.027 (USD); Supplier 3: Mouser; Manufacturer 3: KEMET; Manufacturer Part Number 3: C0603C225M9PACTU; Stock 3: 12100; Pricing 3: 1=0.17, 10=0.074, 50=0.074, 100=0.043, 1000=0.036, 10000=0.027 (USD); Supplier Part Number 3: 80-C0603C225M9P
footprint CAP_0603 (Chip Capacitor 0603, 2-Leads, Body 1.68x0.88mm, IPC Medium Density)
pins: 1, 2